# Altium footprint library Turbine_Footprints.PcbLib: 26 footprints (part 2 of 2)
Each footprint in its own frame and in the unit in brackets; x right, y up, seen from the top. Pads: shape width x height; smd on the part's side, far side on the other; paste and mask are expansions set on the pad; w line width, h text height; cw(c..) or ccw(c..) is an arc to the next point about the centre after c.
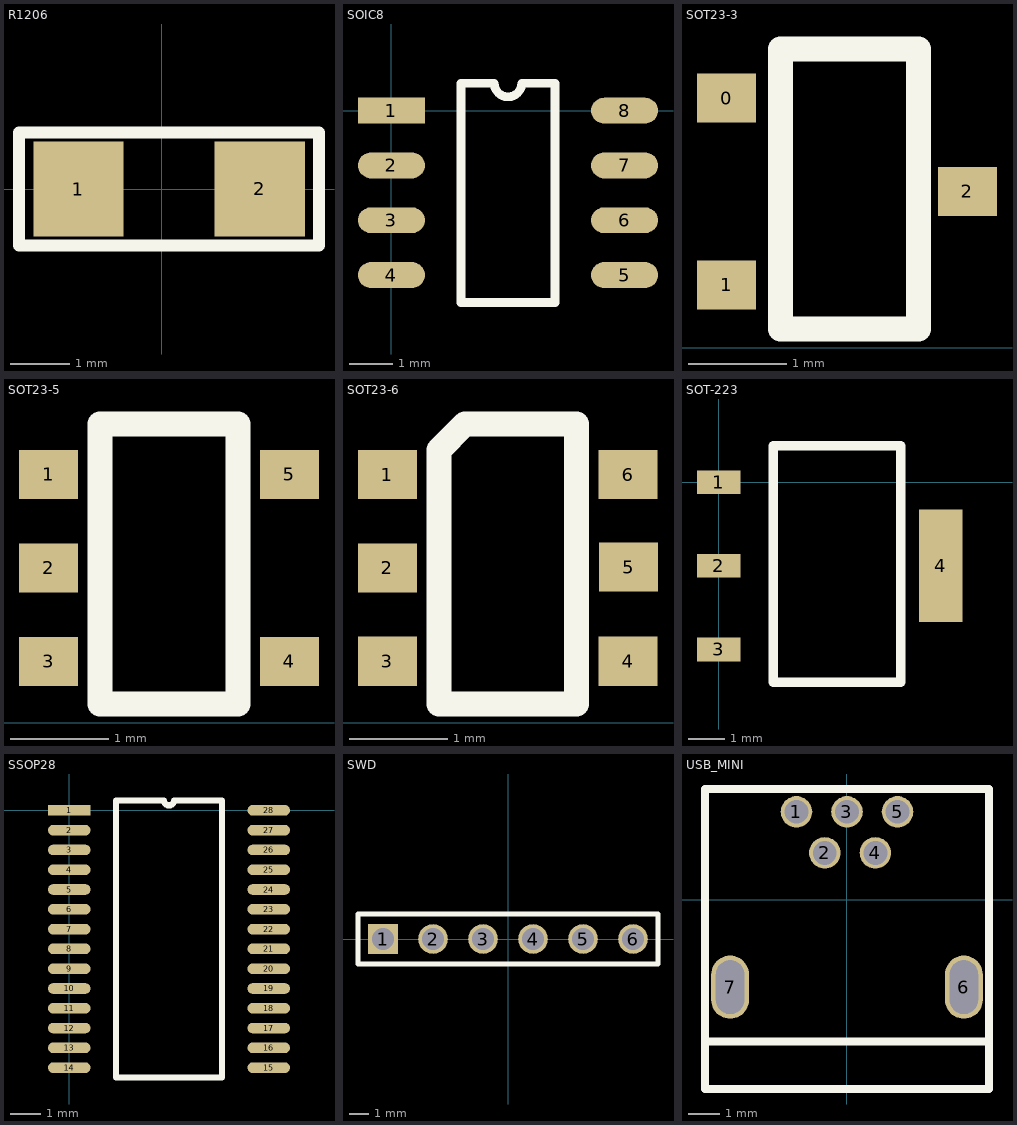
[diagram p1: the footprints below, top view; thin cyan lines are the x and y axes]

## PCBComponent_1 [mm]

## R1206 [mm]
pads (2):
  rect 1.52x1.6 smd: 1(-1.4,0) 2(1.65,0)
Top Overlay:
  lines w0.2: -2.4,-0.95 2.65,-0.95 2.65,0.95 -2.4,0.95 -2.4,-0.3 -2.4,-0.95
3D body: height 0.6, standoff 0, extent -1.5,-0.8 1.7,0.8

## SOIC8 [mm]
pads (8):
  rect 1.55x0.6 smd: 1(0,0)
  oval 1.55x0.6 smd: 2(0,-1.27) 3(0,-2.54) 4(0,-3.81) 5(5.4,-3.81) 6(5.4,-2.54) 7(5.4,-1.27) 8(5.4,0)
Top Overlay:
  lines w0.2: 1.61,-4.445 3.79,-4.445 3.79,0.635 3.017,0.635 cw(c2.7,0.635) 2.382,0.635 1.61,0.635 1.61,-4.445
3D body: height 1.75, standoff 0, extent -0.333,-4.355 5.667,0.545

## SOT23-3 [mm]
pads (3):
  rect 0.6x0.5 smd: 0(0.524,2.54) 1(0.524,0.64) 2(2.974,1.59)
Top Overlay:
  lines w0.254: 1.074,0.19 2.474,0.19 2.474,3.04 1.074,3.04 1.074,0.19
3D body: height 1.3, standoff 0, extent 0.378,0.148 3.178,3.048

## SOT23-5 [mm]
pads (5):
  rect 0.6x0.5 smd: 1(0.525,2.525) 2(0.525,1.575) 3(0.525,0.625) 4(2.975,0.625) 5(2.975,2.525)
Top Overlay:
  lines w0.254: 1.05,0.19 1.05,3.04 2.45,3.04 2.45,0.19 1.05,0.19
3D body: height 1.45, standoff 0, extent 0.375,0.125 3.175,3.025

## SOT23-6 [mm]
pads (6):
  rect 0.6x0.5 smd: 1(0.525,2.525) 2(0.525,1.575) 3(0.525,0.625) 4(2.975,0.625) 5(2.98,1.584) 6(2.975,2.525)
Top Overlay:
  lines w0.254: 1.05,0.19 2.45,0.19 2.45,3.04 1.313,3.04 1.05,2.777 1.05,0.19
3D body: height 1.45, standoff 0, extent 0.327,0.125 3.127,3.025

## SOT-223 [mm]
pads (4):
  rect 1.2x0.65 smd: 1(0,0) 2(0,-2.3) 3(0,-4.6)
  rect 1.2x3.1 smd: 4(6.1,-2.3)
Top Overlay:
  lines w0.254: 1.5,-5.5 5,-5.5 5,1 1.5,1 1.5,-5.5
3D body: height 1.64, standoff -0.04, extent -0.366,-5.55 6.566,0.95

## SSOP28 [mm]
pads (28):
  rect 1.4x0.35 smd: 1(0,0)
  oval 1.4x0.35 smd: 2(0,-0.65) 3(0,-1.3) 4(0,-1.95) 5(0,-2.6) 6(0,-3.25) 7(0,-3.9) 8(0,-4.55) 9(0,-5.2) 10(0,-5.85) 11(0,-6.5) 12(0,-7.15) 13(0,-7.8) 14(0,-8.45) 15(6.55,-8.45) 16(6.55,-7.8) 17(6.55,-7.15) 18(6.55,-6.5) 19(6.55,-5.85) 20(6.55,-5.2) 21(6.55,-4.55) 22(6.55,-3.9) 23(6.55,-3.25) 24(6.55,-2.6) 25(6.55,-1.95) 26(6.55,-1.3) 27(6.55,-0.65) 28(6.55,0)
Top Overlay:
  lines w0.2: 1.535,-8.775 1.535,0.325 3.113,0.325 ccw(c3.275,0.325) 3.437,0.325 5.015,0.325 5.015,-8.775 1.535,-8.775
3D body: height 2.15, standoff 0, extent -0.628,-9.39 7.128,0.94

## SWD [mm]
pads (6):
  rect 1.5x1.5 hole 1.1: 1(-6.35,0)
  round 1.5 hole 1.1: 2(-3.81,0) 3(-1.27,0) 4(1.27,0) 5(3.81,0) 6(6.35,0)
Top Overlay:
  lines w0.254: -7.62,-1.27 -7.62,1.27 7.62,1.27 7.62,-1.27 -7.62,-1.27
3D body: height 8.27, standoff -2.52, extent -7.62,-1.27 7.62,1.27

## USB_MINI [mm]
pads (7):
  round 1 hole 0.75: 1(-1.6,2.775) 2(-0.7,1.475) 3(0,2.775) 4(0.9,1.475) 5(1.6,2.775)
  oval 1.2x2 hole 0.9 slot 1.7 at 90 deg: 6(3.7,-2.775) 7(-3.7,-2.775)
Top Overlay:
  lines w0.254: -4.5,-4.5 4.5,-4.5 ; -4.5,-4.5 -4.5,-2.5 -4.5,3.5 4.5,3.5 4.5,-4.5 ; -4.5,-4.5 -4.5,-6 4.5,-6 4.5,-4.5
3D body: height 4.15, standoff -1.6, extent -3.75,-6.05 3.95,2.95